# Altium schematic symbol library IC_74xx594.Schlib: 1 symbol
Pins are listed as number, name and electrical type; pins without a type are passive.

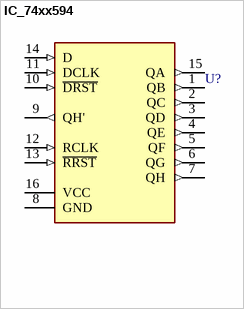
[diagram p0: symbol IC_74xx594]

## IC_74xx594
designator U?
8-Bit Shift Register with Output Registers
pins: 1 QB (out), 2 QC (out), 3 QD (out), 4 QE (out), 5 QF (out), 6 QG (out), 7 QH (out), 8 GND (power), 9 QH' (out), 10 ~{DRST} (in), 11 DCLK (in), 12 RCLK (in), 13 ~{RRST} (in), 14 D (in), 15 QA (out), 16 VCC (power)